# EAGLE library part E30/7SPW (library trafo-siemens)
TRANSFORMER
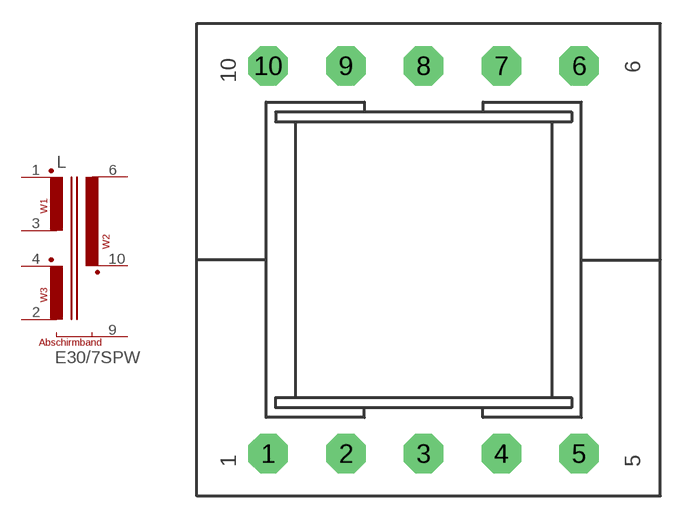
[diagram p2: symbol with the pads of E30/7; footprint E30/7]

Designator prefix L

## E30/7SPW  [E30/7]
1  1A  pas
2  3E  pas
3  1E  pas
4  3A  pas
6  2E  pas
9  SCH  pas
10  2A  pas

## Footprint E30/7 (pad centres in mm)
TRANSFORMER
drill 1.016 pad 2.54 octagon: 1 -10.008,-12.497; 2 -5.004,-12.497; 3 0,-12.497; 4 5.004,-12.497; 5 10.008,-12.497; 6 10.008,12.497; 7 5.004,12.497; 8 0,12.497; 9 -5.004,12.497; 10 -10.008,12.497